# Altium schematic symbol library Schlib1.SchLib: 3 symbols
Pins are listed as number, name and electrical type; pins without a type are passive.

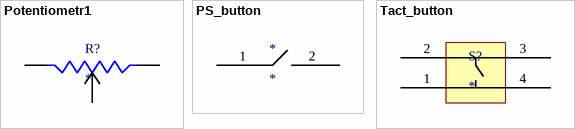
[diagram p0: symbols Potentiometr1 to Tact_button]

## Potentiometr1
designator R?
footprint PotentiomenerFootprint
pins: 1, 2, 3

## PS_button
designator *
pins: 1, 2

## Tact_button
designator S?
footprint TactButtonFootprint
pins: 1, 2, 3, 4